# EAGLE library part WE-LAN_7490140125 (library Wurth_Signal & Communications_WE-LAN)
WE-LAN LAN Transformer 10/100 Base-T Characteristics Power over Ethernet up to 150 Watts and speeds up to 1 Gbit/s Available in SMD Compliant with standards: IEEE 802.3u, IEEE 802.3ab, IEEE 802.3af, IEEE 802.3at and upcoming IEEE 802.3bt Applications Suitable for industrial temperatures from –40 °C up to +125 °C Compatible to Industrial Ethernet systems like EtherCAT or Profinet Compliant with most IC’s for Ethernet applications such as Microchip, Texas Instruments, Broadcom, Linear Technology Hubs, Routers, Switches, IP cameras, IoT applications <https://www.we-online.com/catalog/media/o14800v209%20WE-LAN%20-%20Kopie.jpg> Details see: https://www.we-online.com/catalog/en/WE-LAN/ Created by Ella Wu, 2020-07-08 2020 (C) Würth Elektronik
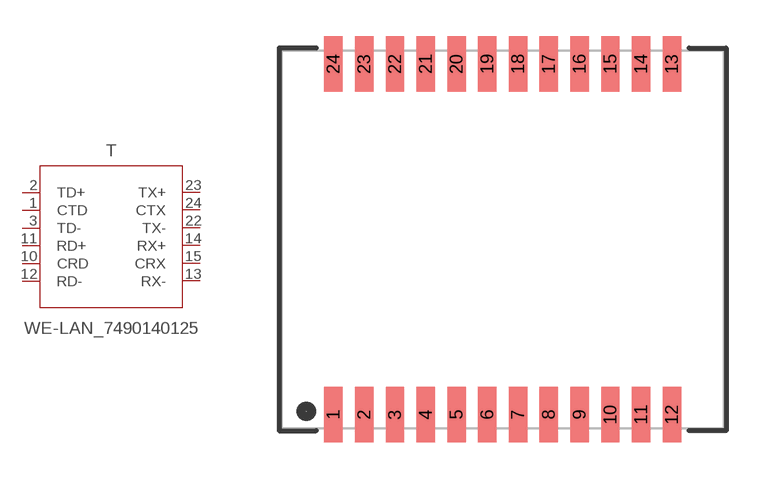
[diagram p6: symbol with the pads of WE-LAN_7490140125; footprint WE-LAN_7490140125]

Designator prefix T

## WE-LAN_7490140125 (DATA-RATE: 10/100 Base-T; DATASHEET-URL: https://www.we-online.com/catalog/datasheet/7490140125.pdf; HPLE: No; L: 350uH; MOUNT: SMT; PART-NUMBER: 7490140125; POE: non-PoE; VALUE: 7490140125; VT: 1500 V (RMS))  [WE-LAN_7490140125]
1  CTD  pas
2  TD+  pas
3  TD-  pas
10  CRD  pas
11  RD+  pas
12  RD-  pas
13  RX-  pas
14  RX+  pas
15  CRX  pas
22  TX-  pas
23  TX+  pas
24  CTX  pas

## Footprint WE-LAN_7490140125 (pad centres in mm)
WE-LAN 100BT 1 Port SMT OH Transformer,1 Port,24Pins
smd 0.76 x 2.29: 1 -6.985,-7.24; 2 -5.715,-7.24; 3 -4.445,-7.24; 4 -3.175,-7.24; 5 -1.905,-7.24; 6 -0.635,-7.24; 7 0.635,-7.24; 8 1.905,-7.24; 9 3.175,-7.24; 10 4.445,-7.24; 11 5.715,-7.24; 12 6.985,-7.24; 13 6.985,7.24; 14 5.715,7.24; 15 4.445,7.24; 16 3.175,7.24; 17 1.905,7.24; 18 0.635,7.24; 19 -0.635,7.24; 20 -1.905,7.24; 21 -3.175,7.24; 22 -4.445,7.24; 23 -5.715,7.24; 24 -6.985,7.24